# Altium footprint library FBEAD(600ohm@100Mhz, 400mA, 300mOhm, SMD-0603).PcbLib: 3 footprints
Each footprint in its own frame and in the unit in brackets; x right, y up, seen from the top. Pads: shape width x height; smd on the part's side, far side on the other; paste and mask are expansions set on the pad; w line width, h text height; cw(c..) or ccw(c..) is an arc to the next point about the centre after c.
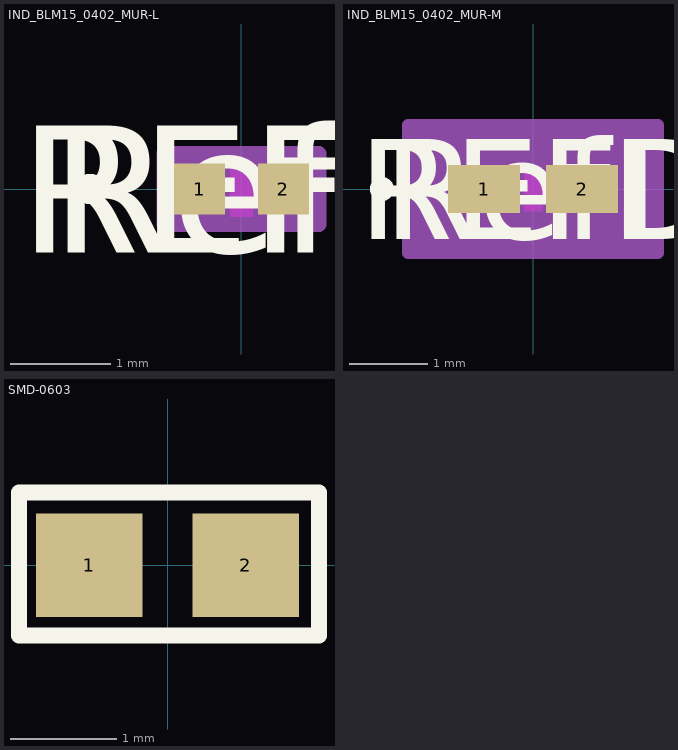
[diagram p0: the footprints below, top view; thin cyan lines are the x and y axes]

## IND_BLM15_0402_MUR-L [mil]
pads (2):
  rect 20x20 smd paste+0 mask+0: 1(-16.5,0) 2(16.5,0)
Top Layer keep-out:
  region: -4.5,-9 -4.5,9 4.5,9 4.5,-9
Top Overlay:
  circle w6: c-59.5,0 r3
  text "RefDes" at -75,-25 h50
  text "REFDES" at -87.5,-25 h50
Keep-Out Layer:
  region: -4.5,-11 -4.5,11 4.5,11 4.5,-11
Mechanical 13:
  circle w0: c-11.5,0 r3
  lines w1: -20.5,-11 -20.5,11 ; -20.5,-11 -6.5,-11 -6.5,11 -20.5,11 ; -20.5,-11 20.5,-11 ; -20.5,-11 -20.5,11 ; -20.5,11 20.5,11 ; 20.5,-11 6.5,-11 6.5,11 20.5,11 ; 20.5,-11 20.5,11 ; 20.5,-11 20.5,11
  text "RefDes2" at -87.5,-25 h50
Mechanical 15:
  region: 30.5,-14 -30.5,-14 -30.5,14 30.5,14
  lines w6: -30.5,-14 -30.5,14 30.5,14 30.5,-14 -30.5,-14
3D body "IND_BLM15_0402_MUR.step": height 22.01, standoff 0, extent -20.51,-10.98 20.51,10.98

## IND_BLM15_0402_MUR-M [mil]
pads (2):
  rect 36x24 smd paste+0 mask+0: 1(-24.5,0) 2(24.5,0)
Top Layer keep-out:
  region: -4.5,-9 -4.5,9 4.5,9 4.5,-9
Top Overlay:
  circle w6: c-75.5,0 r3
  text "RefDes" at -75,-25 h50
  text "REFDES" at -87.5,-25 h50
Keep-Out Layer:
  region: -4.5,-11 -4.5,11 4.5,11 4.5,-11
Mechanical 13:
  circle w0: c-19.5,0 r3
  lines w1: -20.5,-11 -20.5,11 ; -20.5,-11 -6.5,-11 -6.5,11 -20.5,11 ; -20.5,-11 20.5,-11 ; -20.5,-11 -20.5,11 ; -20.5,11 20.5,11 ; 20.5,-11 6.5,-11 6.5,11 20.5,11 ; 20.5,-11 20.5,11 ; 20.5,-11 20.5,11
  text "RefDes2" at -87.5,-25 h50
Mechanical 15:
  region: 62.5,-32 -62.5,-32 -62.5,32 62.5,32
  lines w6: -62.5,-32 -62.5,32 62.5,32 62.5,-32 -62.5,-32
3D body "IND_BLM15_0402_MUR.step": height 22.01, standoff 0, extent -20.51,-10.98 20.51,10.98

## SMD-0603 [mm]
pads (2):
  rect 1x0.97 smd mask+0.051: 1(-0.735,0) 2(0.735,0)
Top Overlay:
  lines w0.152: -1.397,-0.66 1.422,-0.66 1.422,0.686 -1.397,0.686 -1.397,-0.66
3D body "step_temp.STEP": height 0.95, standoff 0, extent -0.8,-0.4 0.8,0.4